# Altium footprint library LT-CHARGE+.PcbLib: 18 footprints (part 1 of 2)
Each footprint in its own frame and in the unit in brackets; x right, y up, seen from the top. Pads: shape width x height; smd on the part's side, far side on the other; paste and mask are expansions set on the pad; w line width, h text height; cw(c..) or ccw(c..) is an arc to the next point about the centre after c.
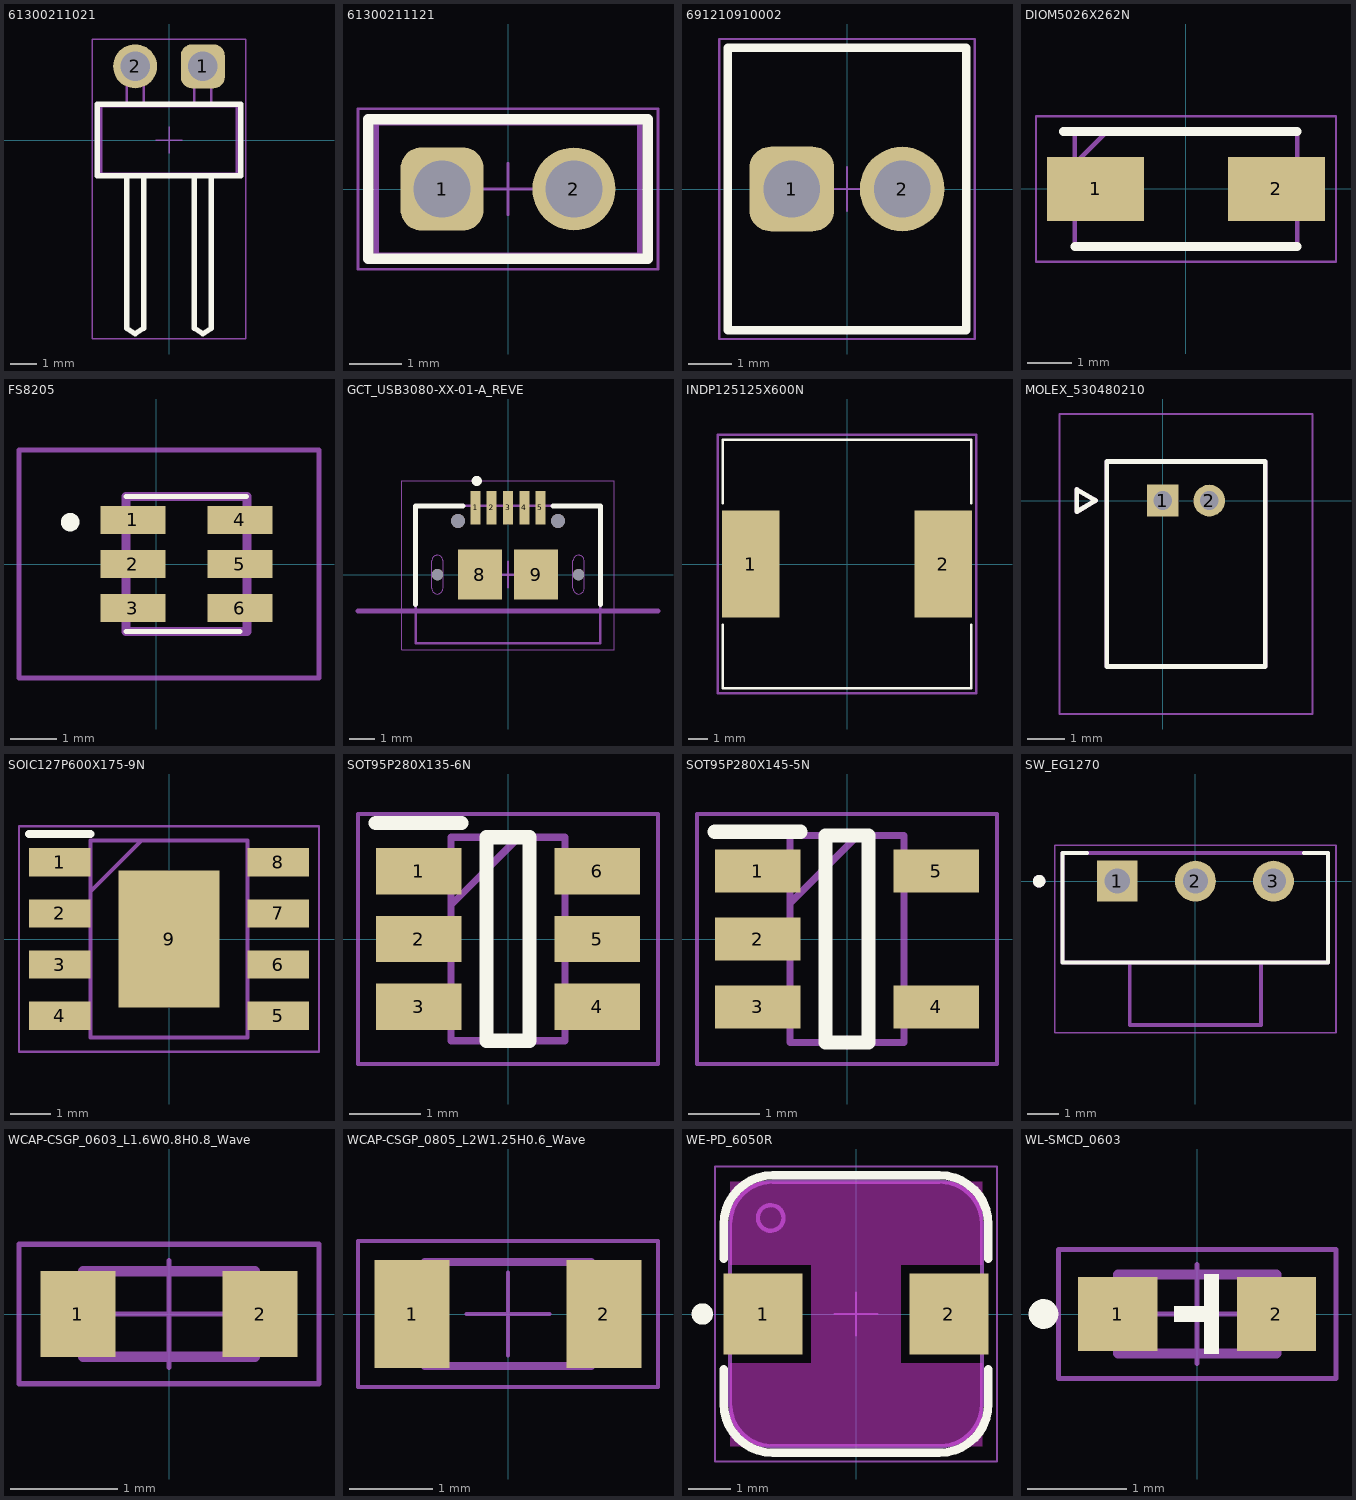
[diagram p0: the footprints below, top view; thin cyan lines are the x and y axes]

## 61300211021 [mm] "Pin Header, pitch 2.54 mm, THT, Angled, single row, 2p"
height 2.54
pads (2):
  rrect50% 1.65x1.65 hole 1.1: 1(1.27,2.77)
  round 1.65 hole 1.1: 2(-1.27,2.77)
Top Overlay:
  lines w0.2: -1.59,-1.345 -1.59,-7.07 -1.27,-7.27 -0.95,-7.07 -0.95,-1.345 ; 0.95,-1.345 0.95,-7.07 1.27,-7.27 1.59,-7.07 1.59,-1.345 ; -2.69,-1.345 2.69,-1.345 2.69,1.345 -2.69,1.345 -2.69,-1.345
Top 3D Body:
  lines w0.1: -1.59,-1.27 -1.59,-7.07 -1.27,-7.27 -0.95,-7.07 -0.95,-1.27 ; -1.59,1.27 -1.59,3.09 -0.95,3.09 -0.95,1.27 ; 0.95,-1.27 0.95,-7.07 1.27,-7.27 1.59,-7.07 1.59,-1.27 ; 0.95,1.27 0.95,3.09 1.59,3.09 1.59,1.27 ; -2.54,-1.27 2.54,-1.27 2.54,1.27 -2.54,1.27 -2.54,-1.27
Top Courtyard:
  lines w0.05: -0.5,0 0.5,0 ; 0,-0.5 0,0.5 ; -2.89,-7.47 2.89,-7.47 2.89,3.795 -2.89,3.795 -2.89,-7.47
Top Designator:
  text ".Designator" at -7.498,-0.5 h1.5
Top Component Outline:
  lines w0.1: -1.59,-1.27 -1.59,-7.07 -1.27,-7.27 -0.95,-7.07 -0.95,-1.27 ; -1.59,1.27 -1.59,3.09 -0.95,3.09 -0.95,1.27 ; 0.95,-1.27 0.95,-7.07 1.27,-7.27 1.59,-7.07 1.59,-1.27 ; 0.95,1.27 0.95,3.09 1.59,3.09 1.59,1.27 ; -2.54,-1.27 -2.54,1.27 2.54,1.27 2.54,-1.27 -2.54,-1.27
3D body "61300211021.stp": height 2.58, standoff -2.96, extent -2.54,-7.27 2.54,3.09

## 61300211121 [mm] "Pin Header, pitch 2.54 mm, THT, Vertical, single row, 2p"
height 8.54
pads (2):
  rrect50% 1.6x1.6 hole 1.1: 1(-1.27,0)
  round 1.6 hole 1.1: 2(1.27,0)
Top Overlay:
  lines w0.2: -2.69,-1.345 2.69,-1.345 2.69,1.345 -2.69,1.345 -2.69,-1.345
Top 3D Body:
  lines w0.1: -2.54,-1.27 -2.54,1.27 2.54,1.27 2.54,-1.27 -2.54,-1.27
Top Courtyard:
  lines w0.05: -0.5,0 0.5,0 ; 0,-0.5 0,0.5 ; -2.89,-1.545 -2.89,1.545 2.89,1.545 2.89,-1.545 -2.89,-1.545
Top Designator:
  text ".Designator" at -7.498,-0.5 h1.5
Top Component Outline:
  lines w0.1: -2.54,-1.27 -2.54,1.27 2.54,1.27 2.54,-1.27 -2.54,-1.27
3D body "61300211121.stp": height 8.57, standoff -2.97, extent -2.54,-1.27 2.54,1.27

## 691210910002 [mm] "2,54mm - modular - green - Horizontal wire entry - Cage clamp - 0,8mm2 wires - 02p"
height 8.5
pads (2):
  rrect50% 1.95x1.95 hole 1.3: 1(-1.27,0)
  round 1.95 hole 1.3: 2(1.27,0)
Top Overlay:
  lines w0.2: -2.74,-3.25 2.74,-3.25 2.74,3.25 -2.74,3.25 -2.74,-3.25
Top 3D Body:
  lines w0.1: -2.74,-3.25 2.74,-3.25 2.74,3.25 -2.74,3.25 -2.74,-3.25
Top Courtyard:
  lines w0.05: -2.94,-3.45 -2.94,3.45 2.94,3.45 2.94,-3.45 -2.94,-3.45
Top Designator:
  text ".Designator" at -7.498,-0.5 h1.5
Top Component Outline:
  lines w0.1: -2.74,-3.25 -2.74,3.25 2.74,3.25 2.74,-3.25 -2.74,-3.25
Top Component Center:
  lines w0.05: -0.5,0 0.5,0 ; 0,-0.5 0,0.5
3D body "691210910002.stp": height 8.55, standoff -3.45, extent -2.74,-3.25 2.74,3.25

## DIOM5026X262N [mm]
pads (2):
  rect 2.2x1.45 smd: 1(-2.05,0) 2(2.05,0)
Top Overlay:
  lines w0.2: -2.775,1.3 2.52,1.3 ; -2.52,-1.3 2.52,-1.3
Mechanical 13:
  lines w0.1: -2.52,0.575 -1.795,1.3 ; -2.52,-1.3 -2.52,1.3 2.52,1.3 2.52,-1.3 -2.52,-1.3
Mechanical 15:
  lines w0.05: -3.4,-1.65 -3.4,1.65 3.4,1.65 3.4,-1.65 -3.4,-1.65
3D body "SS54.stp": height 2.62, standoff 0, extent -2.52,-1.3 2.52,1.3

## FS8205 [mm]
pads (6):
  rect 1.4x0.6 smd: 1(-0.5,0.95) 2(-0.5,0) 3(-0.5,-0.95) 4(1.8,0.95) 5(1.8,0) 6(1.8,-0.95)
Top Overlay:
  lines w0.1: -0.65,-1.45 1.8,-1.45 ; -0.65,1.45 1.95,1.45
  lines w0.2: -1.85,0.8 cw(c-1.85,0.9) -1.85,1 cw(c-1.85,0.9) -1.85,0.8
Mechanical 13:
  lines w0.2: -0.65,-1.45 1.95,-1.45 1.95,1.45 -0.65,1.45 -0.65,-1.45
Mechanical 15:
  lines w0.1: -2.95,-2.45 3.5,-2.45 3.5,2.45 -2.95,2.45 -2.95,-2.45
3D body "FS8205.stp": height 1.46, standoff 0.01, extent -0.79,-1.45 2.01,1.45

## GCT_USB3080-XX-01-A_REVE [mm]
pads (11):
  rect 0.4x1.35 smd: 1(-1.3,2.68) 2(-0.65,2.68) 3(0,2.68) 4(0.65,2.68) 5(1.3,2.68)
  rect 1.75x2 smd: 8(-1.125,0) 9(1.125,0)
  round 0.45 hole 0.45 unplated: ""(-2.825,0) ""(2.825,0)
  round 0.55 hole 0.55 unplated: ""(-2,2.15) ""(2,2.15)
Top Overlay:
  circle w0.2: c-1.25,3.75 r0.102
  lines w0.2: -3.7,-1.2 -3.7,2.75 -1.8,2.75 ; 1.8,2.75 3.7,2.75 3.7,-1.2
Top Solder:
  region: -2.1,-1.301 -3.552,-1.301 -3.552,1.3 -2.1,1.3
  region: 3.55,-1.302 2.104,-1.302 2.104,1.3 3.55,1.3
Bottom Solder:
  region: 3.55,-1.3 2.1,-1.3 2.1,1.3 3.55,1.3
  region: -2.1,-1.303 -3.557,-1.303 -3.557,1.3 -2.1,1.3
Mechanical 1:
  lines w0: -3.05,-0.55 ccw(c-2.825,-0.55) -2.825,-0.775 ccw(c-2.825,-0.55) -2.6,-0.55 -2.6,0.55 ccw(c-2.825,0.55) -2.825,0.775 ccw(c-2.825,0.55) -3.05,0.55 -3.05,-0.55 ; 2.6,-0.55 ccw(c2.825,-0.55) 2.825,-0.775 ccw(c2.825,-0.55) 3.05,-0.55 3.05,0.55 ccw(c2.825,0.55) 2.825,0.775 ccw(c2.825,0.55) 2.6,0.55 2.6,-0.55
Mechanical 13:
  lines w0.1: -3.7,-2.75 3.7,-2.75 3.7,2.75 -3.7,2.75 -3.7,-2.75
  lines w0.2: -6,-1.45 6,-1.45
  text "PCB Edge" at -5.726,-2.545 h0.67
Mechanical 15:
  lines w0.05: -4.25,-3 4.25,-3 4.25,3.75 -4.25,3.75 -4.25,-3
  lines w0.1: -0.508,0 0.508,0 ; 0,-0.508 0,0.508
3D body "USB3090-30-A--3DModel-STEP-56544.STEP": height 2.71, standoff -1, extent -3.99,-1.944 3.81,3.556

## INDP125125X600N [mm]
pads (2):
  rect 2.9x5.4 smd: 1(-4.85,0) 2(4.85,0)
Top Overlay:
  lines w0.127: -6.25,-3.05 -6.25,-6.25 6.25,-6.25 6.25,-3.05 ; -6.25,3.05 -6.25,6.25 6.25,6.25 6.25,3.05
Mechanical 15:
  lines w0.127: -6.5,-6.5 6.5,-6.5 6.5,6.5 -6.5,6.5 -6.5,-6.5
3D body "srr1260-330m.stp": height 6, standoff 0, extent -6.25,-6.25 6.25,6.25

## MOLEX_530480210 [mm]
height 3.5
pads (2):
  rect 0.85x0.85 / inner round 0.85 / far side rect 0.85x0.85 hole 0.5 mask+0.076: 1(0,0)
  round 0.85 hole 0.5 mask+0.076: 2(1.25,0)
Top Overlay:
  lines w0.127: -2.3,-0.3 -2.3,0.3 -1.8,0 -2.3,-0.3 ; -1.5,-4.45 2.75,-4.45 2.75,1.05 -1.5,1.05 -1.5,-4.45
Mechanical 13:
  lines w0.127: -2.3,-0.3 -2.3,0.3 -1.8,0 -2.3,-0.3 ; -1.5,-4.45 2.75,-4.45 2.75,1.05 -1.5,1.05 -1.5,-4.45
  text "PTH D0.5 +/- 0.05" at -2.5,-9.5 h0.5
Mechanical 15:
  lines w0.05: -2.77,-5.72 4.02,-5.72 4.02,2.32 -2.77,2.32 -2.77,-5.72
3D body "530480210--3DModel-STEP-231308.STEP": height 3.63, standoff -2.17, extent -1.456,-4.401 2.794,1.099

## SOIC127P600X175-9N [mm]
pads (9):
  rect 1.525x0.7 smd: 1(-2.712,1.905) 2(-2.712,0.635) 3(-2.712,-0.635) 4(-2.712,-1.905) 5(2.712,-1.905) 6(2.712,-0.635) 7(2.712,0.635) 8(2.712,1.905)
  rect 2.513x3.402 smd: 9(0,0)
Top Overlay:
  lines w0.2: -3.475,2.605 -1.95,2.605
Mechanical 13:
  lines w0.1: -1.95,1.18 -0.68,2.45 ; -1.95,-2.45 -1.95,2.45 1.95,2.45 1.95,-2.45 -1.95,-2.45
Mechanical 15:
  lines w0.05: -3.725,-2.8 -3.725,2.8 3.725,2.8 3.725,-2.8 -3.725,-2.8
3D body "TP4056-42-ESOP8.stp": height 1.75, standoff 0, extent -3,-2.45 3,2.45

## SOT95P280X135-6N [mm]
pads (6):
  rect 1.2x0.65 smd: 1(-1.25,0.95) 2(-1.25,0) 3(-1.25,-0.95) 4(1.25,-0.95) 5(1.25,0) 6(1.25,0.95)
Top Overlay:
  lines w0.2: -1.85,1.625 -0.65,1.625 ; -0.3,-1.425 0.3,-1.425 0.3,1.425 -0.3,1.425 -0.3,-1.425
Mechanical 13:
  lines w0.1: -0.8,0.475 0.15,1.425 ; -0.8,-1.425 0.8,-1.425 0.8,1.425 -0.8,1.425 -0.8,-1.425
Mechanical 15:
  lines w0.05: -2.1,-1.75 2.1,-1.75 2.1,1.75 -2.1,1.75 -2.1,-1.75
3D body "DW01A-G.stp": height 1.35, standoff 0, extent -1.4,-1.425 1.4,1.425

## SOT95P280X145-5N [mm]
pads (5):
  rect 1.2x0.6 smd: 1(-1.25,0.95) 2(-1.25,0) 3(-1.25,-0.95) 4(1.25,-0.95) 5(1.25,0.95)
Top Overlay:
  lines w0.2: -1.85,1.5 -0.65,1.5 ; -0.3,-1.45 -0.3,1.45 0.3,1.45 0.3,-1.45 -0.3,-1.45
Mechanical 13:
  lines w0.1: -0.8,0.5 0.15,1.45 ; -0.8,-1.45 -0.8,1.45 0.8,1.45 0.8,-1.45 -0.8,-1.45
Mechanical 15:
  lines w0.05: -2.1,-1.75 -2.1,1.75 2.1,1.75 2.1,-1.75 -2.1,-1.75
3D body "MIC5219-2.5YM5_TR.stp": height 1.45, standoff 0, extent -1.4,-1.45 1.4,1.45

## SW_EG1270 [mm]
height 4
pads (3):
  rect 1.308x1.308 / inner round 1.308 / far side rect 1.308x1.308 hole 0.8: 1(-2.5,0)
  round 1.308 hole 0.8: 2(0,0) 3(2.5,0)
Top Overlay:
  circle w0.2: c-5,0 r0.1
  lines w0.127: -3.474,0.9 -4.25,0.9 -4.25,-2.6 4.25,-2.6 4.25,0.9 3.474,0.9
Mechanical 13:
  circle w0.2: c-5,0 r0.1
  lines w0.127: -2.1,-2.6 2.1,-2.6 ; -2.1,-2.6 -4.25,-2.6 -4.25,0.9 4.25,0.9 4.25,-2.6 2.1,-2.6 ; -2.1,-2.6 -2.1,-4.6 2.1,-4.6 2.1,-2.6
Mechanical 15:
  lines w0.05: -4.5,-4.85 -4.5,1.15 4.5,1.15 4.5,-4.85 -4.5,-4.85
3D body "step_temp.STEP": height 5.1, standoff -1.7, extent -4.25,-4.6 4.25,0.9

## WCAP-CSGP_0603_L1.6W0.8H0.8_Wave [mm] "Ceramic Capacitors, 0603, body 1.6x0.8mm"
height 0.8
pads (2):
  rect 0.7x0.8 smd: 1(-0.85,0) 2(0.85,0)
Top 3D Body:
  lines w0.1: -0.8,-0.4 -0.8,0.4 0.8,0.4 0.8,-0.4 -0.8,-0.4
Top Courtyard:
  lines w0.05: -0.5,0 0.5,0 ; 0,-0.5 0,0.5 ; -1.4,-0.65 1.4,-0.65 1.4,0.65 -1.4,0.65 -1.4,-0.65
Top Designator:
  text ".Designator" at -2.499,-0.167 h0.5
Top Component Outline:
  lines w0.1: -0.8,-0.4 0.8,-0.4 0.8,0.4 -0.8,0.4 -0.8,-0.4
3D body "CAPC1608X08N.step": height 0.8, standoff 0, extent -0.8,-0.4 0.8,0.4

## WCAP-CSGP_0805_L2W1.25H0.6_Wave [mm] "Ceramic Capacitors, body 2x1.25mm"
height 0.7
pads (2):
  rect 0.9x1.3 smd: 1(-1.15,0) 2(1.15,0)
Top 3D Body:
  lines w0.1: -1,-0.625 -1,0.625 1,0.625 1,-0.625 -1,-0.625
Top Courtyard:
  lines w0.05: -0.5,0 0.5,0 ; 0,-0.5 0,0.5 ; -1.8,-0.875 1.8,-0.875 1.8,0.875 -1.8,0.875 -1.8,-0.875
Top Designator:
  text ".Designator" at -3.499,-0.233 h0.7
Top Component Outline:
  lines w0.1: -1,-0.625 1,-0.625 1,0.625 -1,0.625 -1,-0.625
3D body "CAPC2012X06N.step": height 0.6, standoff 0, extent -1,-0.625 1,0.625

## WE-PD_6050R [mm] "SMT Shielded Power Inductor, 2-leads, body 5.9x6.2mm"
height 5.1
pads (2):
  rect 1.85x1.9 smd: 1(-2.175,0) 2(2.175,0)
Top Layer keep-out:
  region: -2.95,-3.1 -2.95,-1.15 -1.05,-1.15 -1.05,1.15 -2.95,1.15 -2.95,3.1 2.95,3.1 2.95,1.15 1.05,1.15 1.05,-1.15 2.95,-1.15 2.95,-3.1
Top Overlay:
  circle w0.25: c-3.6,0 r0.125
  lines w0.2: -3.1,-1.3 -3.1,-2.1 ccw(c-1.95,-2.1) -1.95,-3.25 1.95,-3.25 ccw(c1.95,-2.1) 3.1,-2.1 3.1,-1.3 ; -3.1,1.3 -3.1,2.1 cw(c-1.95,2.1) -1.95,3.25 1.95,3.25 cw(c1.95,2.1) 3.1,2.1 3.1,1.3
Top 3D Body:
  circle w0.1: c-2,2.25 r0.3
  lines w0.1: -2,-3.1 2,-3.1 ; -1.95,-3.1 cw(c-1.95,-2.1) -2.95,-2.1 -2.95,2.1 cw(c-1.95,2.1) -1.95,3.1 1.95,3.1 cw(c1.95,2.1) 2.95,2.1 2.95,-2.1 cw(c1.95,-2.1) 1.95,-3.1
Top Courtyard:
  lines w0.05: -0.5,0 0.5,0 ; 0,-0.5 0,0.5 ; -3.3,-3.45 -3.3,3.45 3.3,3.45 3.3,-3.45 -3.3,-3.45
Top Designator:
  text ".Designator" at -7.498,-0.5 h1.5
Top Component Outline:
  circle w0.1: c-2,2.25 r0.3
  lines w0.1: -2,-3.1 2,-3.1 ; -1.95,-3.1 cw(c-1.95,-2.1) -2.95,-2.1 -2.95,2.1 cw(c-1.95,2.1) -1.95,3.1 1.95,3.1 cw(c1.95,2.1) 2.95,2.1 2.95,-2.1 cw(c1.95,-2.1) 1.95,-3.1
3D body "WE-PD_6050_p-base_7447786xx.stp": height 4.9, standoff 0, extent -2.95,-3.1 2.95,3.1

## WL-SMCD_0603 [mm] "SMD Mono-color Chip LED, body 1.6x0.8mm"
height 0.4
pads (2):
  rect 0.8x0.75 smd: 1(-0.8,0) 2(0.8,0)
Top Overlay:
  circle w0.15: c-1.55,0 r0.075
  region: 0.22,0.4 0.22,-0.4 0.07,-0.4 0.07,-0.08 -0.23,-0.08 -0.23,0.08 0.07,0.08 0.07,0.4
Top Courtyard:
  lines w0.05: -0.5,0 0.5,0 ; 0,-0.5 0,0.5 ; -1.4,-0.65 1.4,-0.65 1.4,0.65 -1.4,0.65 -1.4,-0.65
Top Designator:
  text ".Designator" at -2.499,-0.167 h0.5
Top Component Outline:
  region: 0.22,0.4 0.22,-0.4 0.07,-0.4 0.07,-0.08 -0.23,-0.08 -0.23,0.08 0.07,0.08 0.07,0.4
  lines w0.1: -0.8,-0.4 0.8,-0.4 0.8,0.4 -0.8,0.4 -0.8,-0.4
3D body "STEP-WL-SMCD-0603-rev1.stp": height 0.42, standoff 0.02, extent -0.8,-0.4 0.8,0.4